# EAGLE library part BME680 (library GueLogics)
BME680 Low power gas, pressure, temperature & humidity sensor
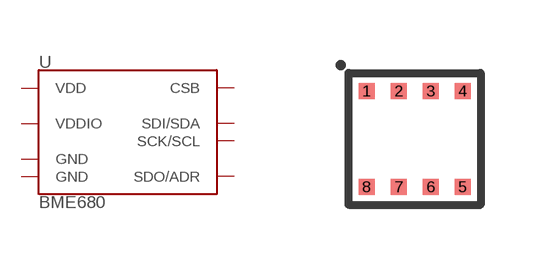
[diagram p4: symbol with the pads of LGA3.0X3.0; footprint LGA3.0X3.0]

Designator prefix -

## BME680  [LGA3.0X3.0]
1  GND  pwr
2  CSB
3  SDI/SDA
4  SCK/SCL
5  SDO/ADR
6  VDDIO  pwr
7  GND  pwr
8  VDD  pwr

## Footprint LGA3.0X3.0 (pad centres in mm)
smd 0.4 x 0.4: 1 -1.2,1.2; 2 -0.4,1.2; 3 0.4,1.2; 4 1.2,1.2; 5 1.2,-1.2; 6 0.4,-1.2; 7 -0.4,-1.2; 8 -1.2,-1.2